# Altium footprint library L1515 - BURNS.PcbLib: 1 footprints
Each footprint in its own frame and in the unit in brackets; x right, y up, seen from the top. Pads: shape width x height; smd on the part's side, far side on the other; paste and mask are expansions set on the pad; w line width, h text height; cw(c..) or ccw(c..) is an arc to the next point about the centre after c.
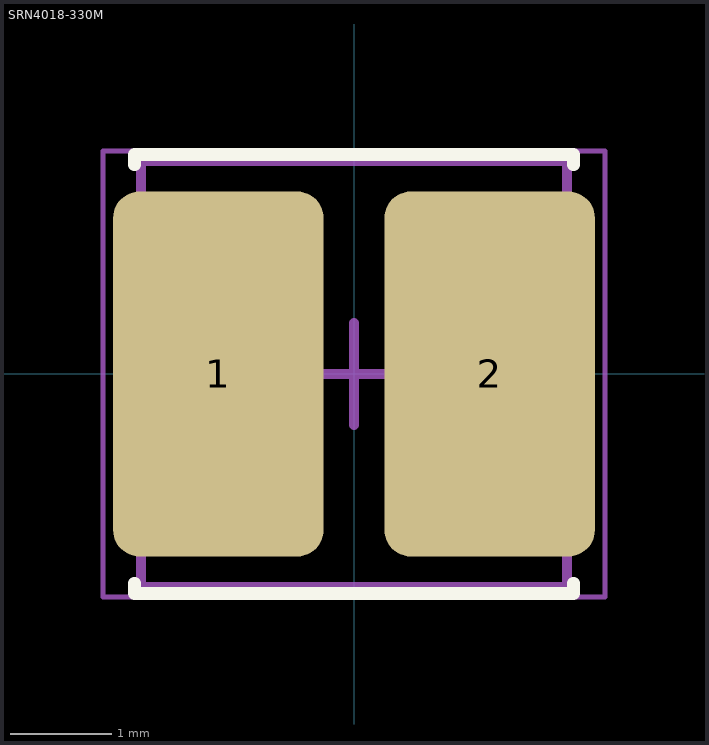
[diagram p0: the footprint, top view; thin cyan lines are the x and y axes]

## SRN4018-330M [mm] "Precision Wire Wound Inductor, 2-Leads, Body 4.00x4.00mm, IPC High Density"
height 1.88
pads (2):
  rrect25% 2.075x3.6 smd: 1(-1.338,0) 2(1.338,0)
Top Overlay:
  lines w0.127: -2.164,-2.064 -2.164,-2.164 2.163,-2.164 2.163,-2.064 ; -2.164,2.063 -2.164,2.163 2.163,2.163 2.163,2.063
Top Assembly:
  circle w0.1: c-1.45,1.45 r0.25
  lines w0.1: -2.1,-2.1 2.1,-2.1 2.1,2.1 -2.1,2.1 -2.1,-2.1
Top Designator:
  text ".Designator" at 0,0.188 h1
Top Courtyard:
  lines w0.05: -2.475,-2.2 2.475,-2.2 2.475,2.2 -2.475,2.2 -2.475,-2.2
Top Component Center:
  lines w0.1: -0.5,0 0.5,0 ; 0,-0.5 0,0.5
3D body "SRN4018-330M.step": height 1.98, standoff 0, extent -2.1,-2 2.1,2